# Altium schematic symbol library Display_Module.SchLib: 4 symbols
Pins are listed as number, name and electrical type; pins without a type are passive.

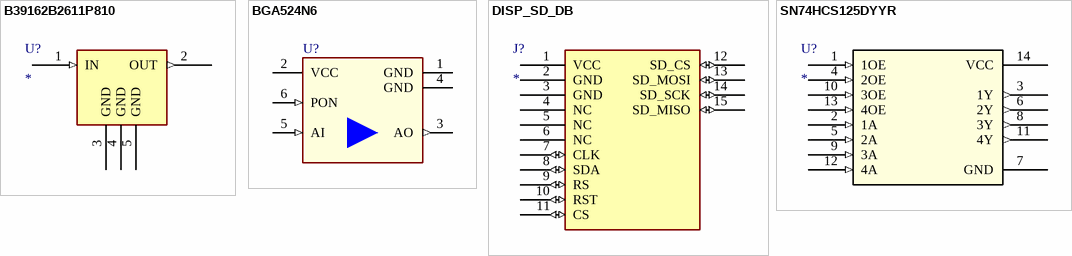
[diagram p0: symbols B39162B2611P810 to SN74HCS125DYYR]

## B39162B2611P810
designator U?
pins: 1 IN (in), 2 OUT (out), 3 GND (power), 4 GND (power), 5 GND (power)

## BGA524N6
designator U?  (value not drawn)
Silicon Germanium Low Noise Amplifier for Global Navigation Satellite Systems (GNSS), High Insertion Power Gain:19.6dB; Manufacturer: Infineon Technologies; ManufacturerPartNumber: BGA524N6; PackageReference: TSNP-6-2
footprint INF-PG-TSNP-6-2-V
footprint INF-PG-TSNP-6-2
pins: 1 GND (power) "Ground", 2 VCC (power) "DC Supply", 3 AO (out) "LNA Output", 4 GND (power) "Ground", 5 AI (in) "LNA Input", 6 PON (in) "Power on Control"

## DISP_SD_DB
designator J?
pins: 1 VCC (power), 2 GND (power), 3 GND (power), 4 NC, 5 NC, 6 NC, 7 CLK (io), 8 SDA (io), 9 RS (io), 10 RST (io), 11 CS (io), 12 SD_CS (io), 13 SD_MOSI (io), 14 SD_SCK (io), 15 SD_MISO (io)

## SN74HCS125DYYR
designator U?
No Description Available; Mfr_Name: Texas Instruments; RefDes: RefDes; Type: Type
footprint SOT23_DYY_TEX
pins: 1 1OE (in), 2 1A (in), 3 1Y (out), 4 2OE (in), 5 2A (in), 6 2Y (out), 7 GND (power), 8 3Y (out), 9 3A (in), 10 3OE (in), 11 4Y (out), 12 4A (in), 13 4OE (in), 14 VCC (power)